# Altium schematic symbol library Flex_SCH_symbols.SchLib: 5 symbols
Pins are listed as number, name and electrical type; pins without a type are passive.

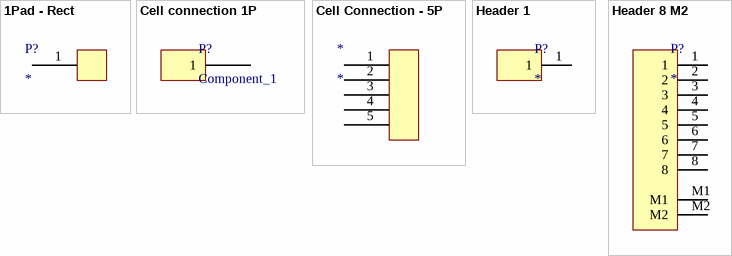
[diagram p0: symbols 1Pad - Rect to Header 8 M2]

## 1Pad - Rect
designator P?
footprint 1-Pad-Rect
pins: 1

## Cell connection 1P
designator P?, comment Component_1
pins: 1

## Cell Connection - 5P
designator *
footprint 4-To-1-Connector
pins: 1, 2, 3, 4, 5

## Header 1
designator P?
pins: 1

## Header 8 M2
designator P?
pins: 1, 2, 3, 4, 5, 6, 7, 8, M1, M2